# EAGLE library part FT201X (library Synapseware-transistors)
FT201X (USB I2C SLAVE IC) The FT201X is a USB to I 2C interface
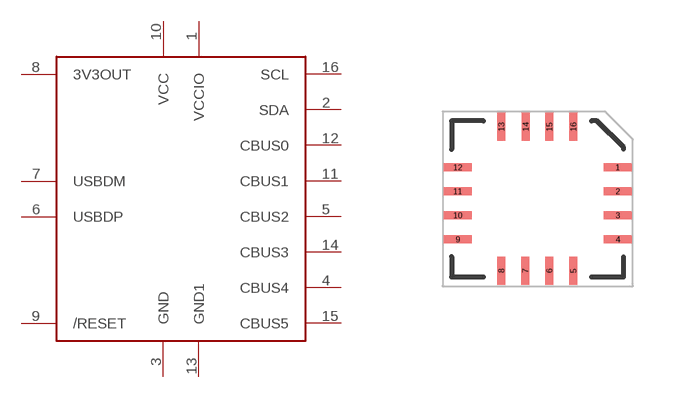
[diagram p23: symbol with the pads of QFN-16; footprint QFN-16]

Designator prefix -

## FT201X  [QFN-16]
1  VCCIO
2  SDA
3  GND
4  CBUS4
5  CBUS2
6  USBDP
7  USBDM
8  3V3OUT
9  /RESET
10  VCC
11  CBUS1
12  CBUS0
13  GND1
14  CBUS3
15  CBUS5
16  SCL

## Footprint QFN-16 (pad centres in mm)
QFN-16 SMD Package
smd 0.7 x 0.2: 1 -0.2,2.79; 2 -0.2,2.19; 3 -0.2,1.59; 4 -0.2,0.99; 9 -4.2,0.99; 10 -4.2,1.59; 11 -4.2,2.19; 12 -4.2,2.79
smd 0.2 x 0.7: 5 -1.31,0.2; 6 -1.91,0.2; 7 -2.51,0.2; 8 -3.11,0.2; 13 -3.11,3.8; 14 -2.5,3.8; 15 -1.91,3.8; 16 -1.31,3.8